# EAGLE library part SAMACSYS_PARTS_MCP7940N-E_MS (library ExportCompute Module)
Real Time Clock I2C GP RTCC 64B SRAM , EXT Source: Datasheet <https://www.arrow.com/en/products/mcp7940n-ems/microchip-technology>
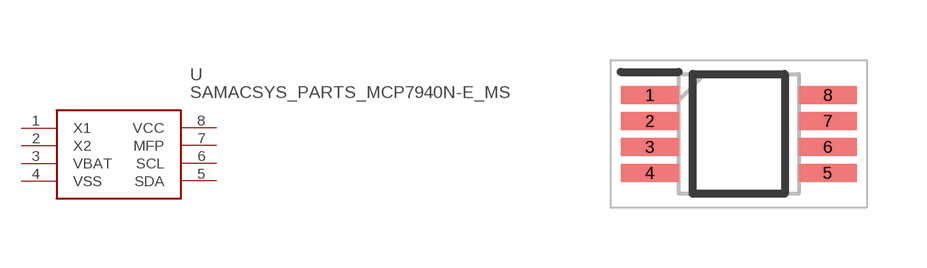
[diagram p17: symbol with the pads of SAMACSYS_PARTS_SOP65P490X110-8N; footprint SAMACSYS_PARTS_SOP65P490X110-8N]

Designator prefix U

## SAMACSYS_PARTS_MCP7940N-E_MS (DIGIKEY: MCP7940NT-E/MSCT-ND; MANUFACTURER: Microchip; MOUSER: 579-MCP7940N-E/MS; MPN: MCP7940N-E/MS)  [SAMACSYS_PARTS_SOP65P490X110-8N]
1  X1
2  X2
3  VBAT
4  VSS
5  SDA
6  SCL
7  MFP
8  VCC

## Footprint SAMACSYS_PARTS_SOP65P490X110-8N (pad centres in mm)
EMC2301-1-ACZL-TR-1
smd 1.45 x 0.45: 1 -2.225,0.975; 2 -2.225,0.325; 3 -2.225,-0.325; 4 -2.225,-0.975; 5 2.225,-0.975; 6 2.225,-0.325; 7 2.225,0.325; 8 2.225,0.975